# EAGLE library part MAX6794 (library Bauteile)
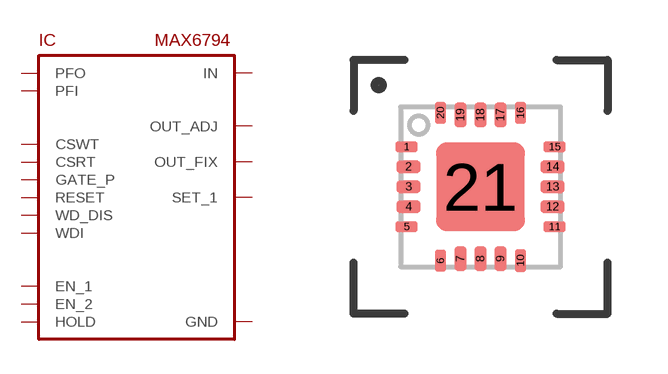
[diagram p40: symbol with the pads of QFN20-0.5; footprint QFN20-0.5]

Designator prefix IC

## MAX6794  [QFN20-0.5]
1  OUT_ADJ
2  OUT_ADJ
3  SET_1
4  PFO
5  CSWT
6  CSRT
7  GND
8  RESET
9  WD_DIS
11  WDI
12  HOLD
13  OUT_FIX
14  OUT_FIX
15  EN_2
16  PFI
17  IN
18  IN
19  GATE_P
20  EN_1
21  GND

## Footprint QFN20-0.5 (pad centres in mm)
smd 0.55 x 0.28: 1 -1.85,1; 5 -1.85,-1; 11 1.85,-1; 15 1.85,1
smd 0.6 x 0.3: 2 -1.8,0.5; 3 -1.8,0; 4 -1.8,-0.5; 12 1.8,-0.5; 13 1.8,0; 14 1.8,0.5
smd 0.28 x 0.55: 6 -1,-1.85; 16 1,1.85; 20 -1,1.85
smd 0.3 x 0.6: 7 -0.5,-1.8; 8 0,-1.8; 9 0.5,-1.8; 17 0.5,1.8; 18 0,1.8; 19 -0.5,1.8
smd 0.28 x 0.58: 10 1,-1.85
smd 2.223 x 2.223: 21 0,0